# Altium footprint library Project_Oshinoko.PcbLib: 202 footprints (part 8 of 13)
Each footprint in its own frame and in the unit in brackets; x right, y up, seen from the top. Pads: shape width x height; smd on the part's side, far side on the other; paste and mask are expansions set on the pad; w line width, h text height; cw(c..) or ccw(c..) is an arc to the next point about the centre after c.
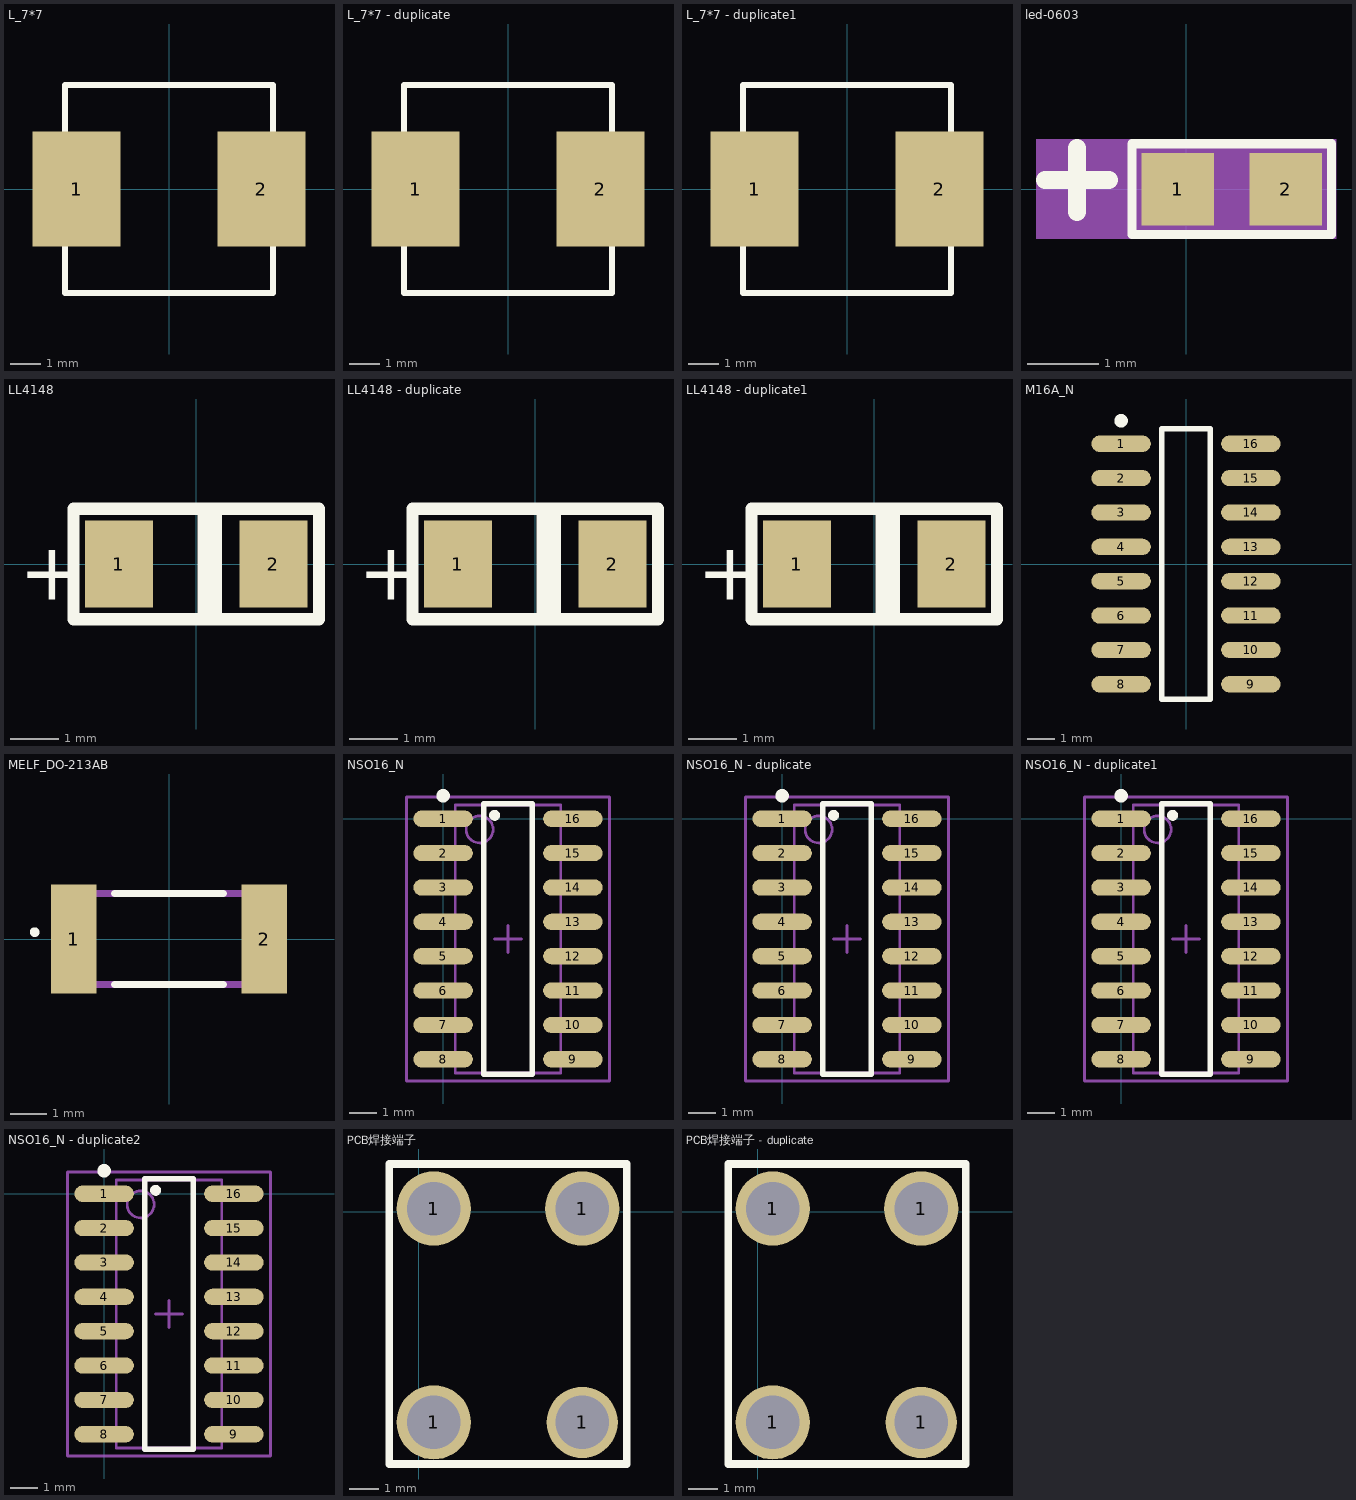
[diagram p7: the footprints below, top view; thin cyan lines are the x and y axes]

## L_7*7 [mm]
pads (2):
  rect 2.9x3.8 smd: 1(-3.048,0) 2(3.048,0)
Top Overlay:
  lines w0.203: -3.429,-3.429 3.429,-3.429 3.429,3.429 -3.429,3.429 -3.429,-3.429

## L_7*7 - duplicate [mm]
pads (2):
  rect 2.9x3.8 smd: 1(-3.048,0) 2(3.048,0)
Top Overlay:
  lines w0.203: -3.429,-3.429 -3.429,3.429 3.429,3.429 3.429,-3.429 -3.429,-3.429

## L_7*7 - duplicate1 [mm]
pads (2):
  rect 2.9x3.8 smd: 1(-3.048,0) 2(3.048,0)
Top Overlay:
  lines w0.203: -3.429,-3.429 -3.429,3.429 3.429,3.429 3.429,-3.429 -3.429,-3.429

## led-0603 [mil] "LED-0603"
pads (2):
  rect 40x40 smd: 1(-4.64,-0.05) 2(55.14,-0.05)
Top Overlay:
  lines w5: -29.75,-25.05 80.25,-25.05 80.25,24.95 -29.75,24.95 -29.75,-25.05
  lines w9.8: -77.85,4.95 -42.45,4.95 ; -60.15,-12.75 -60.15,22.65
Mechanical 8:
  text "1" at 5.36,-0.05 h25
  text "2" at 65.14,-0.05 h25
Mechanical 10:
  region: -82.75,-27.55 82.75,-27.55 82.75,27.55 -82.75,27.55

## LL4148 [mm]
pads (2):
  rect 1.4x1.8 smd: 1(-1.6,0) 2(1.6,0)
Top Overlay:
  rectangle: 0.025,-1.143 0.533,1.143
  lines w0.254: 0.254,-1.143 0.508,-1.143 ; -2.543,-1.143 2.543,-1.143 2.543,1.143 -2.543,1.143 -2.543,0 -2.543,-1.143
  text "+" at -3.671,-1.131 h2.03

## LL4148 - duplicate [mm]
pads (2):
  rect 1.4x1.8 smd: 1(-1.6,0) 2(1.6,0)
Top Overlay:
  rectangle: 0.025,-1.143 0.533,1.143
  lines w0.254: 0.254,-1.143 0.508,-1.143 ; -2.543,-1.143 -2.543,0 -2.543,1.143 2.543,1.143 2.543,-1.143 -2.543,-1.143
  text "+" at -3.671,-1.131 h2.03

## LL4148 - duplicate1 [mm]
pads (2):
  rect 1.4x1.8 smd: 1(-1.6,0) 2(1.6,0)
Top Overlay:
  rectangle: 0.025,-1.143 0.533,1.143
  lines w0.254: 0.254,-1.143 0.508,-1.143 ; -2.543,-1.143 2.543,-1.143 2.543,1.143 -2.543,1.143 -2.543,0 -2.543,-1.143
  text "+" at -3.671,-1.131 h2.03

## M16A_N [mm]
pads (16):
  oval 2.2x0.6 smd: 1(-2.4,4.445) 2(-2.4,3.175) 3(-2.4,1.905) 4(-2.4,0.635) 5(-2.4,-0.635) 6(-2.4,-1.905) 7(-2.4,-3.175) 8(-2.4,-4.445) 9(2.4,-4.445) 10(2.4,-3.175) 11(2.4,-1.905) 12(2.4,-0.635) 13(2.4,0.635) 14(2.4,1.905) 15(2.4,3.175) 16(2.4,4.445)
Top Overlay:
  circle w0.25: c-2.4,5.295 r0.125
  lines w0.2: -0.9,-5 0.9,-5 0.9,5 -0.9,5 -0.9,-5

## MELF_DO-213AB [mm]
pads (2):
  rect 1.25x3 smd: 1(-2.625,0) 2(2.625,0)
Top Overlay:
  circle w0.2: c-3.695,0.189 r0.034
  lines w0.2: -1.5,-1.25 1.5,-1.25 ; -1.5,1.25 1.5,1.25
Mechanical 13:
  lines w0.2: -2.5,-1.25 2.5,-1.25 2.5,1.25 -2.5,1.25 -2.5,-1.25

## NSO16_N [mm]
pads (16):
  oval 2.2x0.6 smd: 1(0,0) 2(0,-1.27) 3(0,-2.54) 4(0,-3.81) 5(0,-5.08) 6(0,-6.35) 7(0,-7.62) 8(0,-8.89) 9(4.8,-8.89) 10(4.8,-7.62) 11(4.8,-6.35) 12(4.8,-5.08) 13(4.8,-3.81) 14(4.8,-2.54) 15(4.8,-1.27) 16(4.8,0)
Top Overlay:
  circle w0.25: c1.905,0.127 r0.076
  circle w0.25: c0,0.85 r0.125
  lines w0.2: 1.5,-9.445 3.3,-9.445 3.3,0.555 1.5,0.555 1.5,-9.445
Mechanical 13:
  circle w0.1: c1.35,-0.395 r0.5
  lines w0.1: 0.45,-9.395 4.35,-9.395 4.35,0.505 0.45,0.505 0.45,-9.395
Mechanical 15:
  lines w0.1: 1.9,-4.445 2.9,-4.445 ; 2.4,-4.945 2.4,-3.945 ; -1.35,-9.695 6.15,-9.695 6.15,0.805 -1.35,0.805 -1.35,-9.695

## NSO16_N - duplicate [mm]
pads (16):
  oval 2.2x0.6 smd: 1(0,0) 2(0,-1.27) 3(0,-2.54) 4(0,-3.81) 5(0,-5.08) 6(0,-6.35) 7(0,-7.62) 8(0,-8.89) 9(4.8,-8.89) 10(4.8,-7.62) 11(4.8,-6.35) 12(4.8,-5.08) 13(4.8,-3.81) 14(4.8,-2.54) 15(4.8,-1.27) 16(4.8,0)
Top Overlay:
  circle w0.25: c1.905,0.127 r0.076
  circle w0.25: c0,0.85 r0.125
  lines w0.2: 1.5,-9.445 3.3,-9.445 3.3,0.555 1.5,0.555 1.5,-9.445
Mechanical 13:
  circle w0.1: c1.35,-0.395 r0.5
  lines w0.1: 0.45,-9.395 4.35,-9.395 4.35,0.505 0.45,0.505 0.45,-9.395
Mechanical 15:
  lines w0.1: 1.9,-4.445 2.9,-4.445 ; 2.4,-4.945 2.4,-3.945 ; -1.35,-9.695 6.15,-9.695 6.15,0.805 -1.35,0.805 -1.35,-9.695

## NSO16_N - duplicate1 [mm]
pads (16):
  oval 2.2x0.6 smd: 1(0,0) 2(0,-1.27) 3(0,-2.54) 4(0,-3.81) 5(0,-5.08) 6(0,-6.35) 7(0,-7.62) 8(0,-8.89) 9(4.8,-8.89) 10(4.8,-7.62) 11(4.8,-6.35) 12(4.8,-5.08) 13(4.8,-3.81) 14(4.8,-2.54) 15(4.8,-1.27) 16(4.8,0)
Top Overlay:
  circle w0.25: c1.905,0.127 r0.076
  circle w0.25: c0,0.85 r0.125
  lines w0.2: 1.5,-9.445 3.3,-9.445 3.3,0.555 1.5,0.555 1.5,-9.445
Mechanical 13:
  circle w0.1: c1.35,-0.395 r0.5
  lines w0.1: 0.45,-9.395 4.35,-9.395 4.35,0.505 0.45,0.505 0.45,-9.395
Mechanical 15:
  lines w0.1: 1.9,-4.445 2.9,-4.445 ; 2.4,-4.945 2.4,-3.945 ; -1.35,-9.695 6.15,-9.695 6.15,0.805 -1.35,0.805 -1.35,-9.695

## NSO16_N - duplicate2 [mm]
pads (16):
  oval 2.2x0.6 smd: 1(0,0) 2(0,-1.27) 3(0,-2.54) 4(0,-3.81) 5(0,-5.08) 6(0,-6.35) 7(0,-7.62) 8(0,-8.89) 9(4.8,-8.89) 10(4.8,-7.62) 11(4.8,-6.35) 12(4.8,-5.08) 13(4.8,-3.81) 14(4.8,-2.54) 15(4.8,-1.27) 16(4.8,0)
Top Overlay:
  circle w0.25: c1.905,0.127 r0.076
  circle w0.25: c0,0.85 r0.125
  lines w0.2: 1.5,-9.445 3.3,-9.445 3.3,0.555 1.5,0.555 1.5,-9.445
Mechanical 13:
  circle w0.1: c1.35,-0.395 r0.5
  lines w0.1: 0.45,-9.395 4.35,-9.395 4.35,0.505 0.45,0.505 0.45,-9.395
Mechanical 15:
  lines w0.1: 1.9,-4.445 2.9,-4.445 ; 2.4,-4.945 2.4,-3.945 ; -1.35,-9.695 6.15,-9.695 6.15,0.805 -1.35,0.805 -1.35,-9.695

## PCBComponent_1 [mil]

## PCB焊接端子 [mm]
pads (4):
  round 2.5 hole 1.8: 1(0.5,-7.1) 1(0.5,0.1) 1(5.5,0.1)
  round 2.4 hole 1.8: 1(5.5,-7.1)
Top Overlay:
  lines w0.254: -1,-8.5 -1,1.6 7,1.6 7,-8.5 -1,-8.5

## PCB焊接端子 - duplicate [mm]
pads (4):
  round 2.5 hole 1.8: 1(0.5,-7.1) 1(0.5,0.1) 1(5.5,0.1)
  round 2.4 hole 1.8: 1(5.5,-7.1)
Top Overlay:
  lines w0.254: -1,-8.5 -1,1.6 7,1.6 7,-8.5 -1,-8.5